# Altium integrated library Components - 30.01.24 - 14.53.IntLib: 1 symbol
Pins are listed as number, name and electrical type; pins without a type are passive.

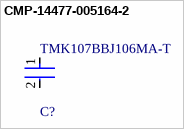
[diagram p0: symbol CMP-14477-005164-2]

## CMP-14477-005164-2
designator C?, comment TMK107BBJ106MA-T
Multilayer Ceramic Capacitor 10uF 25V X5R 20% SMD 0603 T/R; Capacitance: 10uF; Packaging: Tape and Reel; Tolerance: 20%; Mount: Surface Mount; Case Code (Metric): 1608; Case Code (Imperial): 0603; Min Operating Temperature: -55°C; Lead Free: Lead Free; RoHS Compliant: Yes; Case/Package: 0603; Max Operating Temperature: 85°C; Voltage Rating: 25V
footprint FP-0603-L_1_6_0_2-W_0_8_0-IPC_C
footprint FP-0603-L_1_6_0_2-W_0_8_0-MFG
footprint FP-0603-L_1_6_0_2-W_0_8_0-IPC_B
footprint FP-0603-L_1_6_0_2-W_0_8_0-IPC_A
pins: 1, 2